# Altium footprint library Display.PcbLib: 27 footprints (part 1 of 2)
Each footprint in its own frame and in the unit in brackets; x right, y up, seen from the top. Pads: shape width x height; smd on the part's side, far side on the other; paste and mask are expansions set on the pad; w line width, h text height; cw(c..) or ccw(c..) is an arc to the next point about the centre after c.
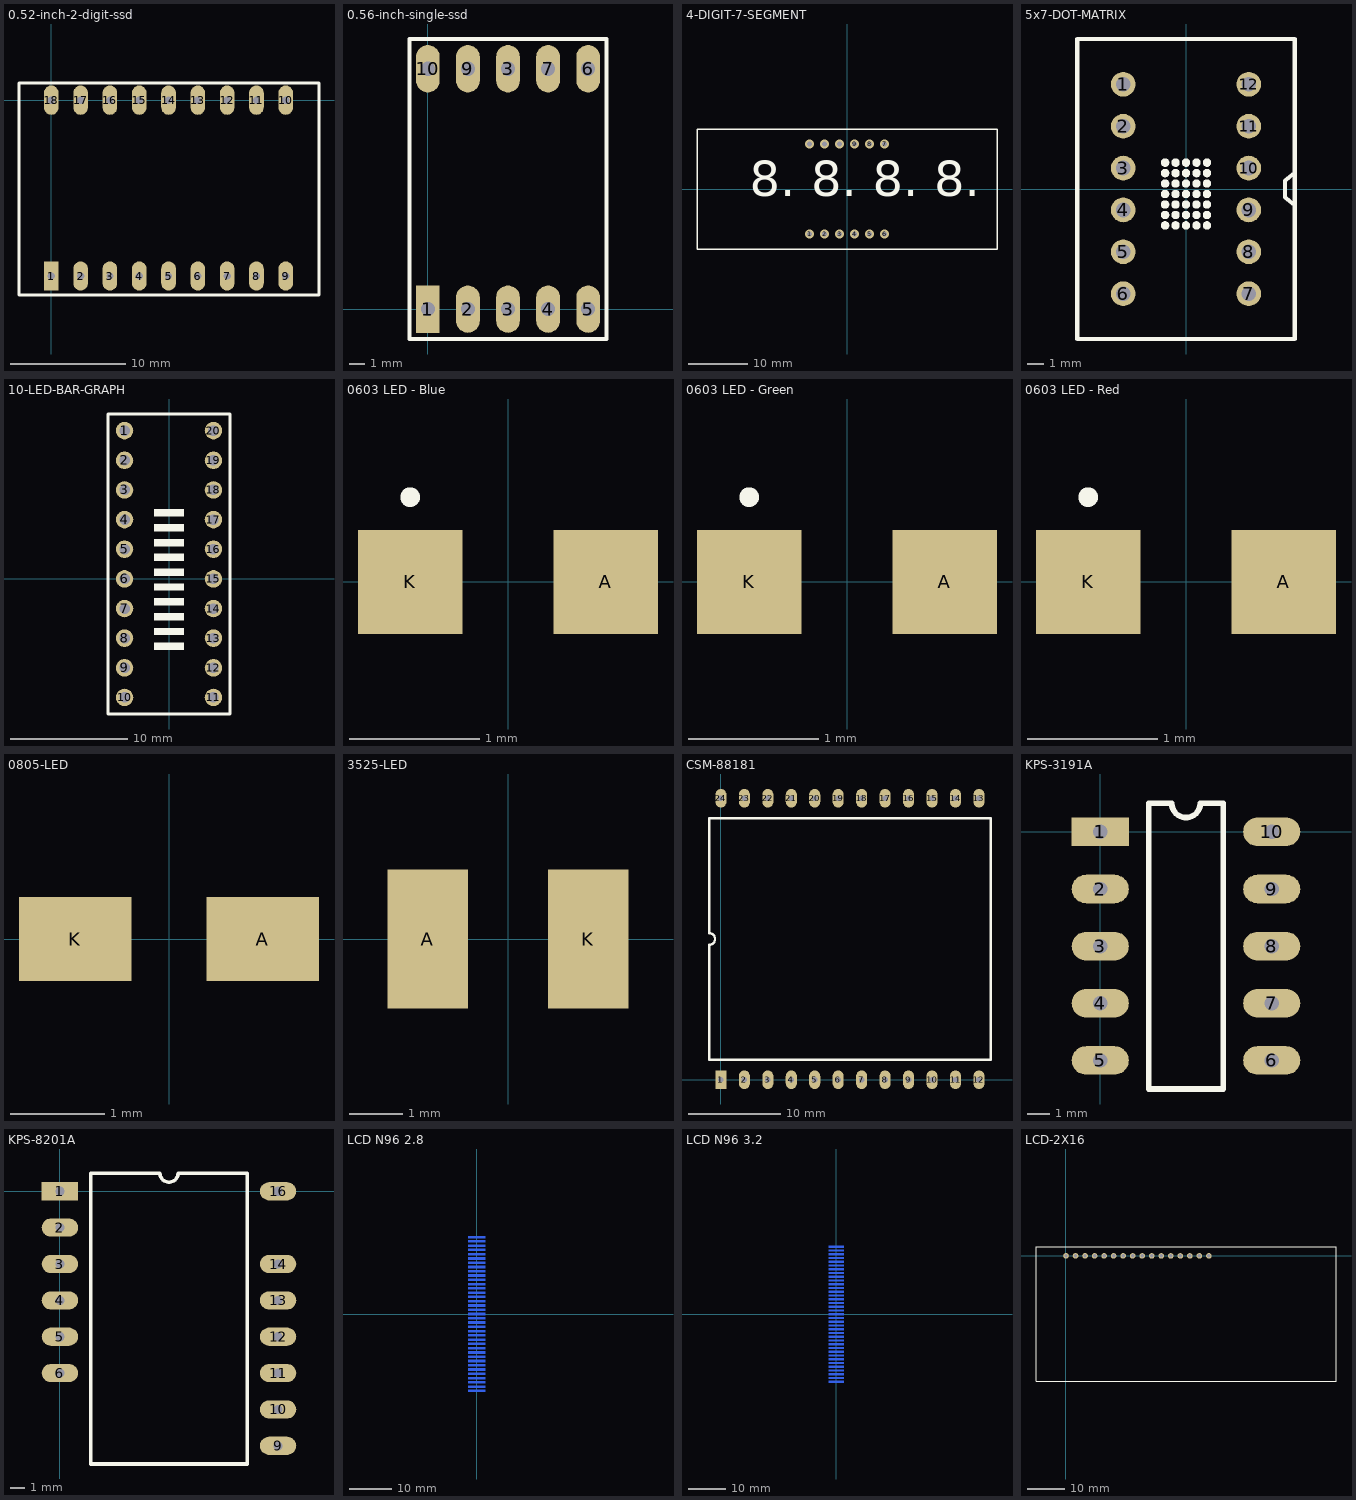
[diagram p0: the footprints below, top view; thin cyan lines are the x and y axes]

## 0.52-inch-2-digit-ssd [mm] "0.52\" 2 Digit Seven Segment Display"
height 7
pads (18):
  rect 1.27x2.54 hole 0.635: 1(0,-15.24)
  oval 1.27x2.54 hole 0.635: 2(2.54,-15.24) 3(5.08,-15.24) 4(7.62,-15.24) 5(10.16,-15.24) 6(12.7,-15.24) 7(15.24,-15.24) 8(17.78,-15.24) 9(20.32,-15.24) 10(20.32,0) 11(17.78,0) 12(15.24,0) 13(12.7,0) 14(10.16,0) 15(7.62,0) 16(5.08,0) 17(2.54,0) 18(0,0)
Top Overlay:
  lines w0.254: -2.8,-16.9 -2.8,1.5 23.2,1.5 23.2,-16.9 -2.8,-16.9
3D body "0.52 seven segment 2 digit.STEP": height 6, standoff -5, extent -2.2,-16.4 22.8,1.1

## 0.56-inch-single-ssd [mm] "0.56\" Single Digit Seven Segment Display"
height 8.5
pads (10):
  rect 1.5x3 hole 0.9: 1(0,0)
  oval 1.5x3 hole 0.9: 2(2.54,0) 3(5.08,0) 3(5.08,15.24) 4(7.62,0) 5(10.16,0) 6(10.16,15.24) 7(7.62,15.24) 9(2.54,15.24) 10(0,15.24)
Top Overlay:
  lines w0.254: -1.17,-1.895 11.325,-1.895 11.325,17.125 -1.165,17.125 -1.17,17.12 -1.17,-1.895
3D body "User Library-King Bright SA-SC56-11.step": height 7.87, standoff -4.13, extent -1.3,-1.925 11.4,17.125

## 4-DIGIT-7-SEGMENT [mm]
pads (12):
  round 1.5 hole 0.9: 1(-6.35,-7.62) 2(-3.81,-7.62) 3(-1.27,-7.62) 4(1.27,-7.62) 5(3.81,-7.62) 6(6.35,-7.62) 7(6.35,7.62) 8(3.81,7.62) 9(1.27,7.62) 10(-1.27,7.62) 11(-3.81,7.62) 12(-6.35,7.62)
Top Overlay:
  lines w0.254: -25.4,-10.16 -25.4,10.16 25.4,10.16 25.4,-10.16 -25.4,-10.16
  text "8. 8. 8. 8." at -16.51,-3.175 h10.16
3D body "User Library-C-564 (7 segment 4 digit LED display).step": height 8, standoff -6.2, extent -25.2,-9.5 25.2,9.5

## 5x7-DOT-MATRIX [mm]
height 6.401
pads (12):
  round 1.5 hole 0.9: 1(-3.81,6.35) 2(-3.81,3.81) 3(-3.81,1.27) 4(-3.81,-1.27) 5(-3.81,-3.81) 6(-3.81,-6.35) 7(3.81,-6.35) 8(3.81,-3.81) 9(3.81,-1.27) 10(3.81,1.27) 11(3.81,3.81) 12(3.81,6.35)
Top Overlay:
  circle w0.254: c-1.27,1.6 r0.127
  circle w0.254: c-0.635,1.6 r0.127
  circle w0.254: c0,1.6 r0.127
  circle w0.254: c0.635,1.6 r0.127
  circle w0.254: c1.27,1.6 r0.127
  circle w0.254: c1.27,0.965 r0.127
  circle w0.254: c0.635,0.965 r0.127
  circle w0.254: c0,0.965 r0.127
  circle w0.254: c-0.635,0.965 r0.127
  circle w0.254: c-1.27,0.965 r0.127
  circle w0.254: c1.27,0.33 r0.127
  circle w0.254: c0.635,0.33 r0.127
  circle w0.254: c0,0.33 r0.127
  circle w0.254: c-0.635,0.33 r0.127
  circle w0.254: c-1.27,0.33 r0.127
  circle w0.254: c1.27,-0.305 r0.127
  circle w0.254: c0.635,-0.305 r0.127
  circle w0.254: c0,-0.305 r0.127
  circle w0.254: c-0.635,-0.305 r0.127
  circle w0.254: c-1.27,-0.305 r0.127
  circle w0.254: c1.27,-0.94 r0.127
  circle w0.254: c0.635,-0.94 r0.127
  circle w0.254: c0,-0.94 r0.127
  circle w0.254: c-0.635,-0.94 r0.127
  circle w0.254: c-1.27,-0.94 r0.127
  circle w0.254: c1.27,-1.575 r0.127
  circle w0.254: c0.635,-1.575 r0.127
  circle w0.254: c0,-1.575 r0.127
  circle w0.254: c-0.635,-1.575 r0.127
  circle w0.254: c-1.27,-1.575 r0.127
  circle w0.254: c1.27,-2.21 r0.127
  circle w0.254: c0.635,-2.21 r0.127
  circle w0.254: c0,-2.21 r0.127
  circle w0.254: c-0.635,-2.21 r0.127
  circle w0.254: c-1.27,-2.21 r0.127
  lines w0.254: 6.6,-1 6,-0.5 6,0.5 6.6,1 ; -6.6,-9.1 6.6,-9.1 6.6,9.1 -6.6,9.1 -6.6,-9.1
3D body "User Library-18mm DOTMATRIX DISPLAY.step": height 6.4, standoff -5.5, extent -6.35,-8.89 6.35,8.89

## 10-LED-BAR-GRAPH [mm]
pads (20):
  round 1.5 hole 0.9: 1(-3.81,12.7) 2(-3.81,10.16) 3(-3.81,7.62) 4(-3.81,5.08) 5(-3.81,2.54) 6(-3.81,0) 7(-3.81,-2.54) 8(-3.81,-5.08) 9(-3.81,-7.62) 10(-3.81,-10.16) 11(3.81,-10.16) 12(3.81,-7.62) 13(3.81,-5.08) 14(3.81,-2.54) 15(3.81,0) 16(3.81,2.54) 17(3.81,5.08) 18(3.81,7.62) 19(3.81,10.16) 20(3.81,12.7)
Top Overlay:
  rectangle: -1.27,-6.096 1.27,-5.461
  rectangle: -1.27,-4.826 1.27,-4.191
  rectangle: -1.27,-3.556 1.27,-2.921
  rectangle: -1.27,-2.286 1.27,-1.651
  rectangle: -1.27,-1.016 1.27,-0.381
  rectangle: -1.27,0.254 1.27,0.889
  rectangle: -1.27,1.524 1.27,2.159
  rectangle: -1.27,2.794 1.27,3.429
  rectangle: -1.27,4.064 1.27,4.699
  rectangle: -1.27,5.334 1.27,5.969
  lines w0.254: -5.225,-11.575 -5.225,14.125 5.225,14.125 5.225,-11.575 -5.225,-11.575
3D body "User Library-LED_BAR_10.step": height 6.8, standoff -7, extent -5.08,-11.43 5.08,13.97

## 0603 LED - Blue [mm] "Blue 0603 SMD LED"
height 0.6
pads (2):
  rect 0.8x0.8 smd: A(0.75,0) K(-0.75,0)
Top Overlay:
  circle w0.1: c-0.75,0.65 r0.025
3D body "User Library-LTST-C190TBKT.STEP": height 0.9, standoff 0, extent -0.825,-0.45 0.875,0.45

## 0603 LED - Green [mm] "Green 0603 SMD LED"
height 0.6
pads (2):
  rect 0.8x0.8 smd: A(0.75,0) K(-0.75,0)
Top Overlay:
  circle w0.1: c-0.75,0.65 r0.025
3D body "User Library-LTST-C190GKT.STEP": height 0.9, standoff 0, extent -0.825,-0.45 0.875,0.45

## 0603 LED - Red [mm] "Red 0603 SMD LED"
height 0.6
pads (2):
  rect 0.8x0.8 smd: A(0.75,0) K(-0.75,0)
Top Overlay:
  circle w0.1: c-0.75,0.65 r0.025
3D body "User Library-LTST-C190EKT.STEP": height 0.9, standoff 0, extent -0.825,-0.45 0.875,0.45

## 0805-LED [mm]
height 0.9
pads (2):
  rect 1.2x0.9 smd: A(1,0) K(-1,0)
3D body "User Library-LED SMD0805.step": height 0.85, standoff 0.01, extent -1.056,-0.45 1.006,0.456

## 3525-LED [mm]
height 2.1
pads (2):
  rect 1.5x2.6 smd: A(-1.5,0) K(1.5,0)
3D body "User Library-PLCC-2_VSMY3850.STEP": height 1.6, standoff -0.05, extent -1.725,-1.4 1.775,1.4

## CSM-88181 [mm]
pads (24):
  rect 1.2x2 hole 0.6: 1(0,0)
  oval 1.2x2 hole 0.6: 2(2.54,0) 3(5.08,0) 4(7.62,0) 5(10.16,0) 6(12.7,0) 7(15.24,0) 8(17.78,0) 9(20.32,0) 10(22.86,0) 11(25.4,0) 12(27.94,0) 13(27.94,30.48) 14(25.4,30.48) 15(22.86,30.48) 16(20.32,30.48) 17(17.78,30.48) 18(15.24,30.48) 19(12.7,30.48) 20(10.16,30.48) 21(7.62,30.48) 22(5.08,30.48) 23(2.54,30.48) 24(0,30.48)
Top Overlay:
  lines w0.254: -1.27,2.159 29.21,2.159 29.21,28.321 -1.27,28.321 -1.27,15.875 cw(c-1.27,15.24) -1.27,14.605 -1.27,2.159

## KPS-3191A [mm]
pads (10):
  rect 2.54x1.27 hole 0.635: 1(0,0)
  oval 2.54x1.27 hole 0.635: 2(0,-2.54) 3(0,-5.08) 4(0,-7.62) 5(0,-10.16) 6(7.62,-10.16) 7(7.62,-7.62) 8(7.62,-5.08) 9(7.62,-2.54) 10(7.62,0)
Top Overlay:
  lines w0.254: 2.159,-11.43 5.461,-11.43 5.461,1.27 4.445,1.27 cw(c3.81,1.27) 3.175,1.27 2.159,1.27 2.159,-11.43

## KPS-8201A [mm]
pads (13):
  rect 2.54x1.27 hole 0.635: 1(0,0)
  oval 2.54x1.27 hole 0.635: 2(0,-2.54) 3(0,-5.08) 4(0,-7.62) 5(0,-10.16) 6(0,-12.7) 9(15.24,-17.78) 10(15.24,-15.24) 11(15.24,-12.7) 12(15.24,-10.16) 13(15.24,-7.62) 14(15.24,-5.08) 16(15.24,0)
Top Overlay:
  lines w0.254: 2.159,-19.05 2.159,1.27 6.985,1.27 ccw(c7.62,1.27) 8.255,1.27 13.081,1.27 13.081,-19.05 2.159,-19.05

## LCD N96 2.8 [mm]
height 1.6
pads (37):
  rect 4x0.5 smd far side: 1(0,-18) 2(0,-17) 3(0,-16) 4(0,-15) 5(0,-14) 6(0,-13) 7(0,-12) 8(0,-11) 9(0,-10) 10(0,-9) 11(0,-8) 12(0,-7) 13(0,-6) 14(0,-5) 15(0,-4) 16(0,-3) 17(0,-2) 18(0,-1) 19(0,0) 20(0,1) 21(0,2) 22(0,3) 23(0,4) 24(0,5) 25(0,6) 26(0,7) 27(0,8) 28(0,9) 29(0,10) 30(0,11) 31(0,12) 32(0,13) 33(0,14) 34(0,15) 35(0,16) 36(0,17) 37(0,18)
Bottom Overlay:
  lines w0.254: -27.792,22.4 -26.416,22.4 ; -26.416,-20.5 -27.792,-20.5 ; -25.908,-20.5 -23.876,-20.5 ; -25.908,22.4 -23.876,22.4 ; -23.368,-20.5 -21.336,-20.5 ; -23.368,22.4 -21.336,22.4 ; -20.828,-20.5 -18.796,-20.5 ; -20.828,22.4 -18.796,22.4 ; -18.292,20.5 -18.292,22.4 ; -18.288,-20.5 -16.256,-20.5 ; -18.288,20.5 -16.256,20.5 ; -15.748,-20.5 -13.716,-20.5 ; -15.748,20.5 -13.716,20.5 ; -13.208,-20.5 -11.176,-20.5 ; -13.208,20.5 -11.176,20.5 ; -10.668,-20.5 -8.636,-20.5 ; -10.668,20.5 -8.636,20.5 ; -8.128,-20.5 -6.096,-20.5 ; -8.128,20.5 -6.096,20.5 ; -5.588,-20.5 -3.556,-20.5 ; -5.588,20.5 -3.556,20.5 ; -3.048,-20.5 -1.016,-20.5 ; -3.048,20.5 -1.016,20.5 ; -0.508,-20.5 0.008,-20.5 0.008,-19.016 ; -0.508,20.5 0.008,20.5 0.008,19.084 ; 8.365,-0.22 9.508,-0.22 ; 9.508,-1.363 9.508,-0.22 ; 9.508,0.923 9.508,-0.22 ; 10.651,-0.22 9.508,-0.22 ; -27.792,-20.5 -27.792,25.5 42.408,25.5 42.408,-25.5 -27.792,-25.5 -27.792,-20.5 ; -19.292,-21.6 -19.292,21.6 38.308,21.6 38.308,-21.6 -19.292,-21.6
  text "37" at 0.504,18.581 h1.52
  text "1" at 0.504,-19.905 h1.52

## LCD N96 3.2 [mm]
pads (37):
  rect 4x0.5 smd far side: 1(0,-18) 2(0,-17) 3(0,-16) 4(0,-15) 5(0,-14) 6(0,-13) 7(0,-12) 8(0,-11) 9(0,-10) 10(0,-9) 11(0,-8) 12(0,-7) 13(0,-6) 14(0,-5) 15(0,-4) 16(0,-3) 17(0,-2) 18(0,-1) 19(0,0) 20(0,1) 21(0,2) 22(0,3) 23(0,4) 24(0,5) 25(0,6) 26(0,7) 27(0,8) 28(0,9) 29(0,10) 30(0,11) 31(0,12) 32(0,13) 33(0,14) 34(0,15) 35(0,16) 36(0,17) 37(0,18)
Bottom Overlay:
  lines w0.254: 4.056,-0.054 5.199,-0.054 ; 5.199,-1.197 5.199,-0.054 ; 5.199,1.089 5.199,-0.054 ; 6.342,-0.054 5.199,-0.054
  lines w0.3: -37.198,-26.445 -2.373,-26.445 ccw(c-2.373,-26.42) -2.348,-26.42 ccw(c-2.348,-26.37) -2.298,-26.37 -2.298,-21.945 cw(c-1.773,-21.945) -1.773,-21.42 2.107,-21.42 ccw(c2.107,-20.15) 3.377,-20.15 3.377,19.905 ccw(c2.427,19.905) 2.427,20.855 -1.848,20.855 cw(c-1.848,21.255) -2.248,21.255 -2.248,26.28 -37.198,26.28 ; -2.248,27.305 cw(c-2.223,27.305) -2.223,27.33 ; -37.198,-27.17 42.802,-27.17 42.802,27.33 -37.198,27.33 -37.198,-27.17
  text "1" at -0.673,-18.77 h1.52
  text "37" at -1.598,20.33 h1.52

## LCD-2X16 [mm]
height 14
pads (16):
  round 1.5 hole 0.9: 1(0,0) 2(2.54,0) 3(5.08,0) 4(7.62,0) 5(10.16,0) 6(12.7,0) 7(15.24,0) 8(17.78,0) 9(20.32,0) 10(22.86,0) 11(25.4,0) 12(27.94,0) 13(30.48,0) 14(33.02,0) 15(35.56,0) 16(38.1,0)
Top Overlay:
  lines w0.254: -8,-33.5 72,-33.5 72,2.5 -8,2.5 -8,-33.5
3D body "User Library-LCD 16x2 JHD162A.step": height 13.6, standoff 0.45, extent -8,-33.5 72,2.5
3D body "pin_header_aw140-eg-g16d.stp": height 5.5, standoff -5.7, extent -1.27,-1.249 39.37,1.249